# EAGLE library part IR2184 (library IC & Transistor)
Half Bridge Driver
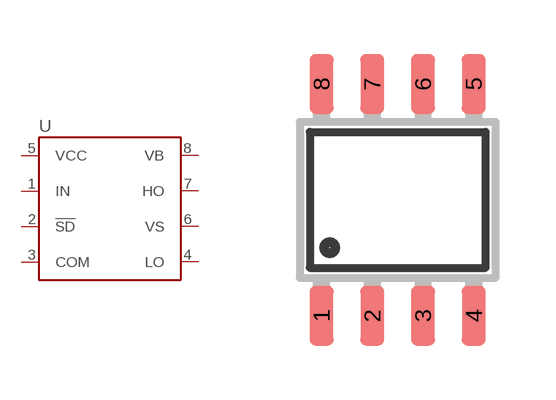
[diagram p2: symbol with the pads of SOIC-08N; footprint SOIC-08N]

Designator prefix U

## IR2184_(SOIC-08N) (CYTRON-PC: S-IC-IR2184-SO8; DESC: S Half Bridge Driver IR2148 SO8; MF: International Rectifier; MPN: IR2184STRPBF)  [SOIC-08N]
1  IN  in
2  !SD
3  COM
4  LO  out
5  VCC
6  VS
7  HO  out
8  VB

## Footprint SOIC-08N (pad centres in mm)
Small Outline Integrated Circuit (SOIC) Narrow (JEDEC) SOIC Package Size: 4.9mm x 3.9mm Lead Pitch: 1.27mm
smd 0.6 x 1.5: 1 -1.905,-2.9; 2 -0.635,-2.9; 3 0.635,-2.9; 4 1.905,-2.9; 5 1.905,2.9; 6 0.635,2.9; 7 -0.635,2.9; 8 -1.905,2.9